# Altium schematic symbol library Schlib1.SchLib: 1 symbol
Pins are listed as number, name and electrical type; pins without a type are passive.

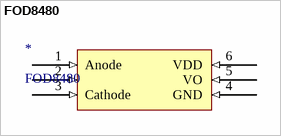
[diagram p0: symbol FOD8480]

## FOD8480
designator *
footprint SOIC127P1030X348-6N (SOIC, 6-Leads, Body 4.50x6.80mm, Pitch 1.27mm, IPC Medium Density)
pins: 1 Anode (in), 2 (in), 3 Cathode (in), 4 GND (in), 5 VO (in), 6 VDD (in)